# EAGLE library part NODEMCU (library 000_nl2)
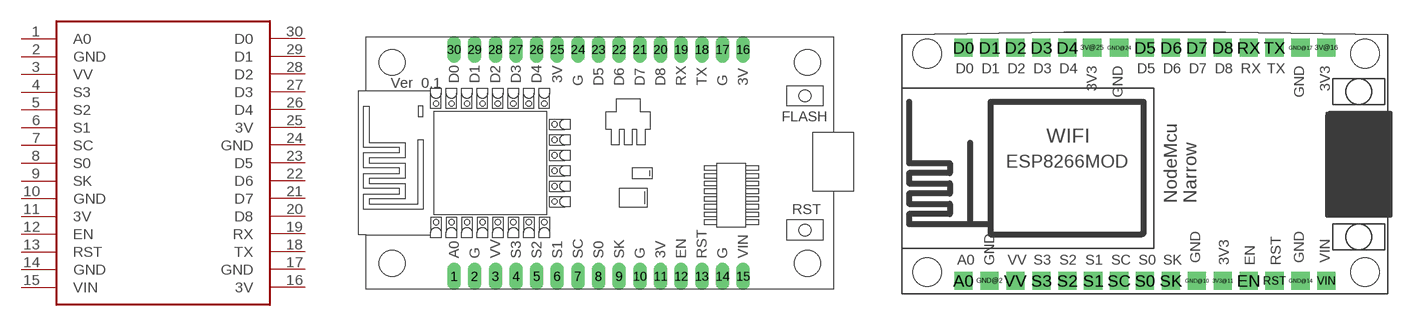
[diagram p37: symbol with the pads of NODEMCU; footprints NODEMCU, NODEMCU_NARROW]

Designator prefix -

## NODEMCUOFFICIAL_BOARD  [NODEMCU]
1  A0
2  GND  pwr
3  VV
4  S3
5  S2
6  S1
7  SC
8  S0
9  SK
10  GND  pwr
11  3V  pwr
12  EN
13  RST
14  GND  pwr
15  VIN
16  3V  pwr
17  GND  pwr
18  TX
19  RX
20  D8
21  D7
22  D6
23  D5
24  GND  pwr
25  3V  pwr
26  D4
27  D3
28  D2
29  D1
30  D0

## NODEMCUNARROW  [NODEMCU_NARROW]
3V3@11  3V  pwr
3V@16  3V  pwr
3V@25  3V  pwr
A0  A0
D0  D0
D1  D1
D2  D2
D3  D3
D4  D4
D5  D5
D6  D6
D7  D7
D8  D8
EN  EN
GND@2  GND  pwr
GND@10  GND  pwr
GND@14  GND  pwr
GND@17  GND  pwr
GND@24  GND  pwr
RST  RST
RX  RX
S0  S0
S1  S1
S2  S2
S3  S3
SC  SC
SK  SK
TX  TX
VIN  VIN
VV  VV

## Footprint NODEMCU (pad centres in mm)
drill 1 pad 1.676 long: 1 -17.78,-13.97; 2 -15.24,-13.97; 3 -12.7,-13.97; 4 -10.16,-13.97; 5 -7.62,-13.97; 6 -5.08,-13.97; 7 -2.54,-13.97; 8 0,-13.97; 9 2.54,-13.97; 10 5.08,-13.97; 11 7.62,-13.97; 12 10.16,-13.97; 13 12.7,-13.97; 14 15.24,-13.97; 15 17.78,-13.97; 16 17.78,13.97; 17 15.24,13.97; 18 12.7,13.97; 19 10.16,13.97; 20 7.62,13.97; 21 5.08,13.97; 22 2.54,13.97; 23 0,13.97; 24 -2.54,13.97; 25 -5.08,13.97; 26 -7.62,13.97; 27 -10.16,13.97; 28 -12.7,13.97; 29 -15.24,13.97; 30 -17.78,13.97

## Footprint NODEMCU_NARROW (pad centres in mm)
drill 0.8 pad 1.778 square: 3V3@11 7.62,-11.43; 3V@16 17.78,11.43; 3V@25 -5.18,11.43; A0 -17.78,-11.43; D0 -17.78,11.43; D1 -15.24,11.43; D2 -12.7,11.43; D3 -10.16,11.43; D4 -7.62,11.43; D5 0,11.43; D6 2.54,11.43; D7 5.08,11.43; D8 7.62,11.43; EN 10.16,-11.43; GND@2 -15.24,-11.43; GND@10 5.08,-11.43; GND@14 15.24,-11.43; GND@17 15.24,11.43; GND@24 -2.54,11.43; RST 12.7,-11.43; RX 10.16,11.43; S0 0,-11.43; S1 -5.08,-11.43; S2 -7.62,-11.43; S3 -10.16,-11.43; SC -2.54,-11.43; SK 2.54,-11.43; TX 12.7,11.43; VIN 17.78,-11.43; VV -12.7,-11.43
hole 2.8 at 21.575,10.855
hole 2.8 at 21.575,-10.565
hole 2.8 at -21.36,-10.565
hole 2.8 at -21.36,10.855